# EAGLE library part 690367180872 (library WR-MM)
WR-MM Female Connector w/o Latch & w/o Polarization KIND PROPERTIES: Pitch 2.54 mm Quality Class :25 Mating cycles Gender:Female MATERIAL PROPERTIES: Insulator Material:PBT Insulator Flammability Rating UL94 V-0 Insulator Color:Red Contact Material :Phosphor Bronze Contact Plating :Mat Tin over Nickel Contact Type: Stamped GENERAL PROPERTIES: Operating Temperature:-40 °C up to +105 °C Compliance Lead free / RoHS ELECTRICAL PROPERTIES: IR 1:1.5 A Working Voltage 100 V (AC) Withstanding Voltage:500 V (AC) Contact Resistance: 10 mΩ Insulation Resistance:1000 MΩ PACKAGING PROPERTIES: cULus Approval:E323964 Packaging :Tube <https://katalog.we-online.com/media/images/v2/o33159v209%20Family_Wr-MM_69036718xx72.jpg> Details see:Web1: https://katalog.we-online.com/en/em/MM_1_27_FEMALE_CONNECTOR_W_O_LATCH_AND_POLARIZATION_69036718XX72_2 Web2: https://katalog.we-online.com/en/em/MM_1_27_FEMALE_CONNECTOR_W_O_LATCH_AND_POLARIZATION_69036718XX72 Updated by Yingchun,Shan 2019-10-28 2019 (C) Würth Elektronik
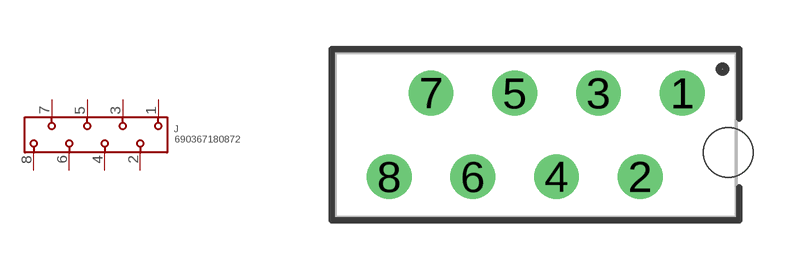
[diagram p12: symbol with the pads of 690367180872; footprint 690367180872]

Designator prefix J

## 690367180872 (DATASHEET-URL: https://www.we-online.com/catalog/datasheet/690367180872.pdf; GENDER: Female; IR: 1.5A; PACKAGING: Tube; PART-NUMBER: 690367180872; PINS: 8; PITCH: 2.54; TYPE: Straight; VALUE: 690367180872)  [690367180872]
1  1  pas
2  2  pas
3  3  pas
4  4  pas
5  5  pas
6  6  pas
7  7  pas
8  8  pas

## Footprint 690367180872 (pad centres in mm)
WR-MM Female Connector w/o Latch & w/o Polarization, 8 Pins
drill 0.85: 1 4.445,1.27; 2 3.175,-1.27; 3 1.905,1.27; 4 0.635,-1.27; 5 -0.635,1.27; 6 -1.905,-1.27; 7 -3.175,1.27; 8 -4.445,-1.27
hole 1.5 at 5.845,-0.53